# Altium footprint library BJT.PcbLib: 4 footprints
Each footprint in its own frame and in the unit in brackets; x right, y up, seen from the top. Pads: shape width x height; smd on the part's side, far side on the other; paste and mask are expansions set on the pad; w line width, h text height; cw(c..) or ccw(c..) is an arc to the next point about the centre after c.
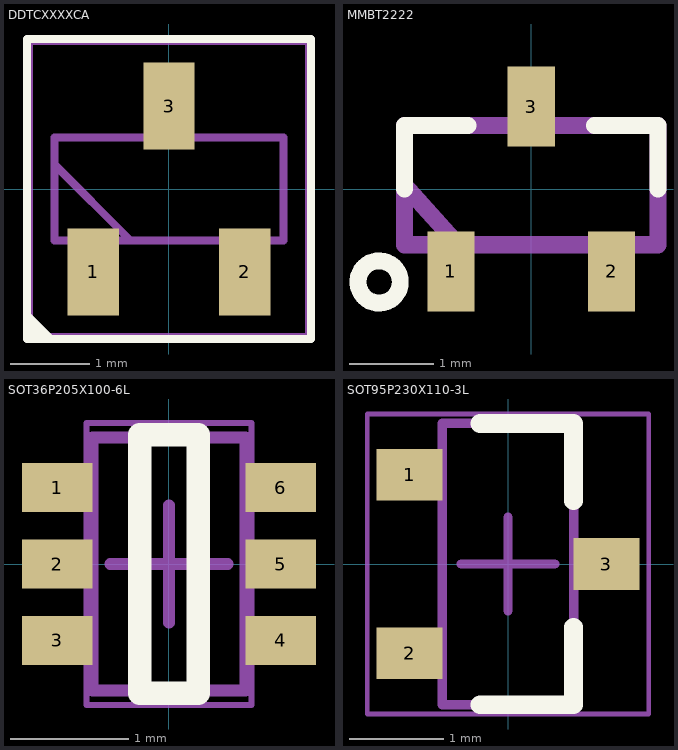
[diagram p0: the footprints below, top view; thin cyan lines are the x and y axes]

## DDTCXXXXCA [mm]
pads (3):
  rect 0.65x1.1 smd: 1(-0.96,-1.05) 2(0.96,-1.05) 3(0,1.05)
Top Overlay:
  lines w0.1: -1.8,-1.6 -1.5,-1.9 -1.58,-1.82 -1.72,-1.82 -1.8,-1.82 -1.69,-1.71 -1.795,-1.71 ; -1.8,-1.9 -1.8,1.9 1.8,1.9 1.8,-1.9 -1.8,-1.9
Mechanical 13:
  lines w0.1: -1.45,0.31 -0.49,-0.65 ; -1.45,-0.65 -1.45,0.65 1.45,0.65 1.45,-0.65 -1.45,-0.65
Mechanical 15:
  lines w0.05: -1.75,-1.85 -1.75,1.85 1.75,1.85 1.75,-1.85 -1.75,-1.85
3D body "DDTC113ZCA-7-F.stp": height 1.1, standoff 0, extent -1.45,-1.2 1.45,1.2

## MMBT2222 [mm]
pads (3):
  rect 0.56x0.95 smd: 1(-0.95,-0.975) 2(0.95,-0.975) 3(0,0.975)
Top Overlay:
  circle w0.2: c-1.8,-1.1 r0.25
  lines w0.2: -1.5,0 -1.5,0.75 -0.75,0.75 ; 0.75,0.75 1.5,0.75 1.5,0
Mechanical 13:
  lines w0.2: -1.5,0.045 -0.874,-0.651
  lines w0.203: -1.5,-0.66 -1.5,0.75 1.5,0.75 1.5,-0.66 -1.5,-0.66
3D body "step_temp.STEP": height 1.11, standoff 0, extent -1.45,-1.2 1.45,1.2

## SOT36P205X100-6L [mm] "SOT36, 6-Leads, Body 1.98x2.05mm, Pitch 0.65mm, IPC High Density"
height 1
pads (6):
  rect 0.6x0.42 smd mask-2539.97: 1(-0.95,0.65) 2(-0.95,0) 3(-0.95,-0.65) 4(0.95,-0.65) 5(0.95,0) 6(0.95,0.65)
Top Overlay:
  lines w0.2: -0.25,-1.1 -0.25,1.1 0.25,1.1 0.25,-1.1 -0.25,-1.1
Top Solder:
  region: 0.625,0.415 0.625,0.885 1.275,0.885 1.275,0.415
  region: 0.625,-0.235 0.625,0.235 1.275,0.235 1.275,-0.235
  region: 0.625,-0.885 0.625,-0.415 1.275,-0.415 1.275,-0.885
  region: -1.275,-0.885 -1.275,-0.415 -0.625,-0.415 -0.625,-0.885
  region: -1.275,-0.235 -1.275,0.235 -0.625,0.235 -0.625,-0.235
  region: -1.275,0.415 -1.275,0.885 -0.625,0.885 -0.625,0.415
Mechanical 13:
  lines w0.1: -0.65,-1.075 0.65,-1.075 0.65,1.075 -0.65,1.075 -0.65,-1.075
Mechanical 15:
  lines w0.05: -0.7,-1.2 0.7,-1.2 0.7,1.2 -0.7,1.2 -0.7,-1.2
  lines w0.1: -0.5,0 0.5,0 ; 0,-0.5 0,0.5
3D body "SOT363.step": height 0.98, standoff 0.03, extent -1.028,-1.039 1.072,1.111

## SOT95P230X110-3L [mm] "SOT23, 3-Leads, Body 2.90x2.30mm, Pitch 0.95mm, IPC High Density"
height 1.1
pads (3):
  rect 0.7x0.55 smd: 1(-1.05,0.95) 2(-1.05,-0.95) 3(1.05,0)
Top Overlay:
  lines w0.2: -0.3,-1.5 0.7,-1.5 0.7,-0.675 ; -0.3,1.5 0.7,1.5 0.7,0.675
Mechanical 13:
  lines w0.1: -0.7,-1.5 0.7,-1.5 0.7,1.5 -0.7,1.5 -0.7,-1.5
Mechanical 15:
  lines w0.05: -1.5,-1.6 1.5,-1.6 1.5,1.6 -1.5,1.6 -1.5,-1.6
  lines w0.1: -0.5,0 0.5,0 ; 0,-0.5 0,0.5
3D body "SOT95P230X110-3L.step": height 1.1, standoff 0, extent -1.3,-1.5 1.3,1.5